# EAGLE library part SD_CARD_SOCKET (library SparkFun-Connectors)
SD Memory Card Connector (standard "large" size) Push-push normal type, CD enable, WP enable. Here is the connector we sell at SparkFun: SD/MMC Socket <https://www.sparkfun.com/products/12769> (PRT-12769) Datasheet <https://cdn.sparkfun.com/datasheets/Prototyping/19608.pdf> It is used on these SparkFun products: SparkFun SD/MMC Card Breakout <https://www.sparkfun.com/products/12941> (BOB-12941) SD Sniffer <https://www.sparkfun.com/products/11468> (TOL-11468)
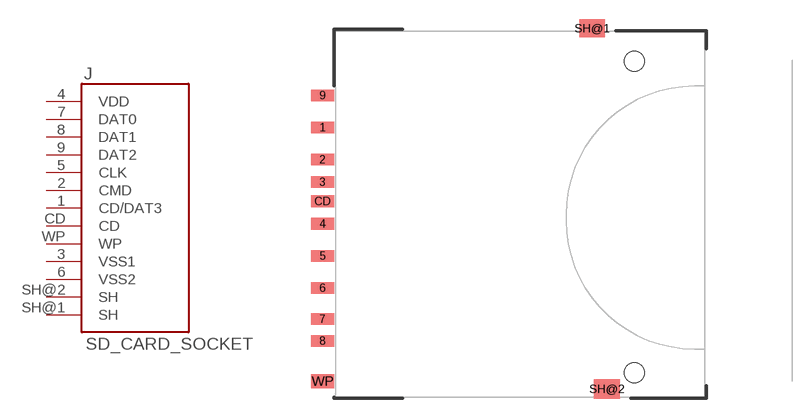
[diagram p46: symbol with the pads of SD; footprint SD]

Designator prefix J

## SD_CARD_SOCKET (PROD_ID: CONN-11976; SF_ID: PRT-12769)  [SD]
1  CD/DAT3
2  CMD
3  VSS1  pwr
4  VDD  pwr
5  CLK
6  VSS2  pwr
7  DAT0
8  DAT1
9  DAT2
CD  CD
SH@1  SH
SH@2  SH
WP  WP

## Footprint SD (pad centres in mm)
SD/MMC Socket Specifications: Pin count:13 Datasheet referenced for footprint <https://cdn.sparkfun.com/datasheets/Prototyping/19608.pdf> Example device(s): SD_CARD_SOCKET
smd 1.8 x 0.9: 1 -1,6.77; 2 -1,4.27; 3 -1,2.52; 4 -1,-0.73; 5 -1,-3.23; 6 -1,-5.73; 7 -1,-8.15; 8 -1,-9.85; 9 -1,9.27; CD -1,1.02
smd 2 x 1.4: SH@1 20,14.496
smd 2 x 1.527: SH@2 21.15,-13.589
smd 1.8 x 1.1: WP -1,-13
hole 1.55 at 23.3,11.94
hole 1.55 at 23.3,-12.32